# Altium footprint library Crystal.PcbLib: 4 footprints
Each footprint in its own frame and in the unit in brackets; x right, y up, seen from the top. Pads: shape width x height; smd on the part's side, far side on the other; paste and mask are expansions set on the pad; w line width, h text height; cw(c..) or ccw(c..) is an arc to the next point about the centre after c.
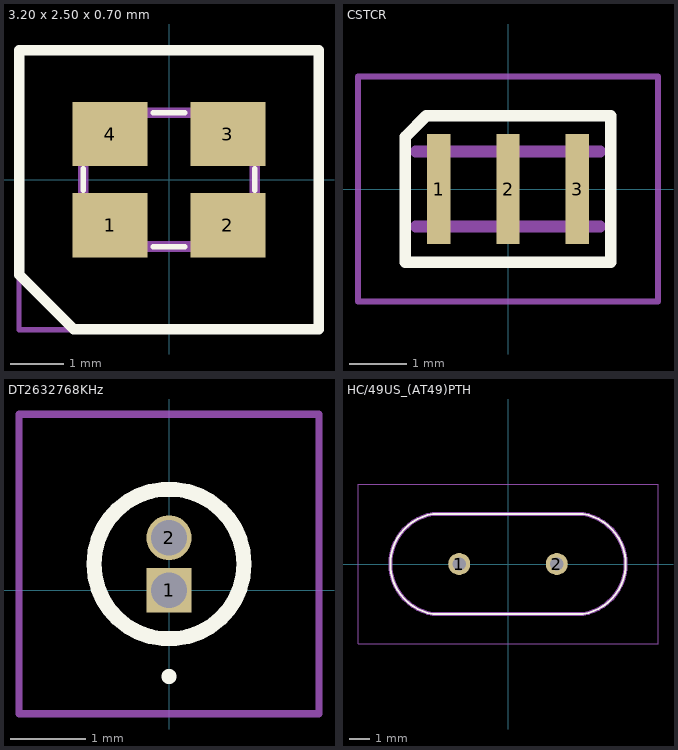
[diagram p0: the footprints below, top view; thin cyan lines are the x and y axes]

## 3.20 x 2.50 x 0.70 mm [mm]
pads (4):
  rect 1.4x1.2 smd: 1(-1.1,-0.85) 2(1.1,-0.85) 3(1.1,0.85) 4(-1.1,0.85)
Top Overlay:
  lines w0.1: -1.6,-0.2 -1.6,0.2 ; -0.3,-1.25 0.3,-1.25 ; -0.3,1.25 0.3,1.25 ; 1.6,-0.2 1.6,0.2
  lines w0.2: -2.794,-1.778 -1.778,-2.794 2.794,-2.794 2.794,2.413 -2.794,2.413 -2.794,-1.778
Mechanical 13:
  lines w0.2: -1.6,-1.25 1.6,-1.25 1.6,1.25 -1.6,1.25 -1.6,-1.25
Mechanical 15:
  lines w0.1: -2.8,-2.8 2.8,-2.8 2.8,2.45 -2.8,2.45 -2.8,-2.8
3D body "X322512MSB4SI.stp": height 0.7, standoff 0, extent -1.6,-1.25 1.6,1.25

## CSTCR [mm]
pads (3):
  rect 0.4x1.9 smd: 1(-1.2,0) 2(0,0) 3(1.2,0)
Top Overlay:
  lines w0.2: -1.778,-1.27 1.778,-1.27 1.778,1.27 -1.416,1.27 -1.778,0.908 -1.778,-1.27
Mechanical 13:
  lines w0.2: -1.6,-0.65 1.6,-0.65 ; -1.6,0.65 1.6,0.65
Mechanical 15:
  lines w0.1: -2.6,-1.95 -2.6,1.95 2.6,1.95 2.6,-1.95 -2.6,-1.95
3D body "User Library-CSTCR4M00G53.STEP": height 1.15, standoff 0, extent -2.286,-1 2.214,1

## DT2632768KHz [mm]
pads (2):
  rect 0.6x0.6 hole 0.48: 1(0,0)
  round 0.6 hole 0.48: 2(0,0.7)
Top Overlay:
  lines w0.1: 0,-1.2 ccw(c0,-1.15) 0,-1.1 ccw(c0,-1.15) 0,-1.2
  lines w0.2: -1,0.35 ccw(c0,0.35) 1,0.35 ccw(c0,0.35) -1,0.35
Mechanical 13:
  lines w0.1: -1,0.35 ccw(c0,0.35) 1,0.35 ccw(c0,0.35) -1,0.35
Mechanical 15:
  lines w0.1: -2,-1.65 2,-1.65 2,2.35 -2,2.35 -2,-1.65
3D body "DT-26_32.768KHz.stp": height 6.2, standoff -5, extent -1,-0.65 1,1.35

## HC/49US_(AT49)PTH [mm]
pads (2):
  round 1.1 hole 0.66: 1(-2.44,0) 2(2.44,0)
Top Overlay:
  lines w0.1: -3.752,2.5 ccw(c-3.351,0) -3.747,-2.5 ; -3.75,-2.5 3.75,-2.5 ccw(c3.35,0) 3.75,2.5 -3.75,2.5
Mechanical 13:
  lines w0.2: -3.752,-2.5 cw(c-3.351,0) -3.747,2.5 ; -3.75,-2.5 3.75,-2.5 ccw(c3.35,0) 3.75,2.5 -3.75,2.5
Mechanical 15:
  lines w0.05: -7.5,-4 7.5,-4 7.5,4 -7.5,4 -7.5,-4
3D body "ABL-16.000MHz-B4Y.stp": height 3.5, standoff -5.5, extent -5.75,-2.5 5.75,2.5